# EAGLE library part JST-SH-4P (library Deegou_Connector)
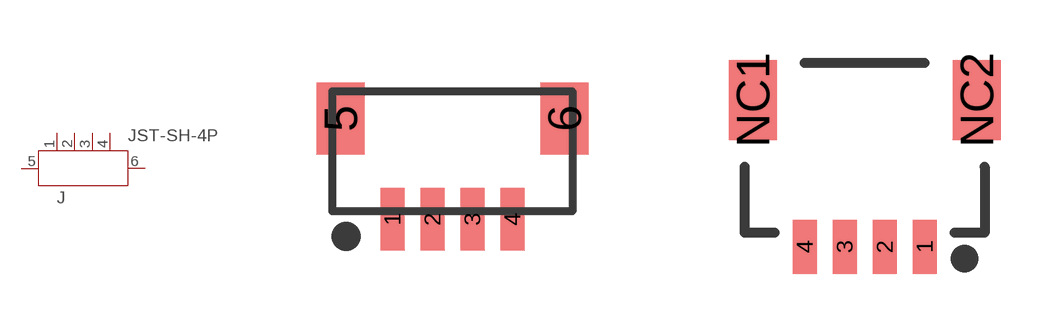
[diagram p40: symbol with the pads of CONNECTOR_JST-SH-4P-90; footprints CONNECTOR_JST-SH-4P-90, CONNECTOR_JST-SH-4P]

Designator prefix J

## JST-SH-4P  [CONNECTOR_JST-SH-4P-90]
1  1
2  2
3  3
4  4
5  5
6  6

## JST-SH-4P-1.0  [CONNECTOR_JST-SH-4P]
1  1
2  2
3  3
4  4
NC1  5
NC2  6

## Footprint CONNECTOR_JST-SH-4P-90 (pad centres in mm)
smd 0.6 x 1.55: 1 -1.5,0; 2 -0.5,0; 3 0.5,0; 4 1.5,0
smd 1.2 x 1.8: 5 -2.8,2.525; 6 2.8,2.525

## Footprint CONNECTOR_JST-SH-4P (pad centres in mm)
smd 0.6 x 1.35: 1 1.5,0; 2 0.5,0; 3 -0.5,0; 4 -1.5,0
smd 1.2 x 2: NC1 -2.8,3.675; NC2 2.8,3.675